# EAGLE library part SA818 (library ruark2)
NiceRF SA818 1W Embedded walkie talkie module
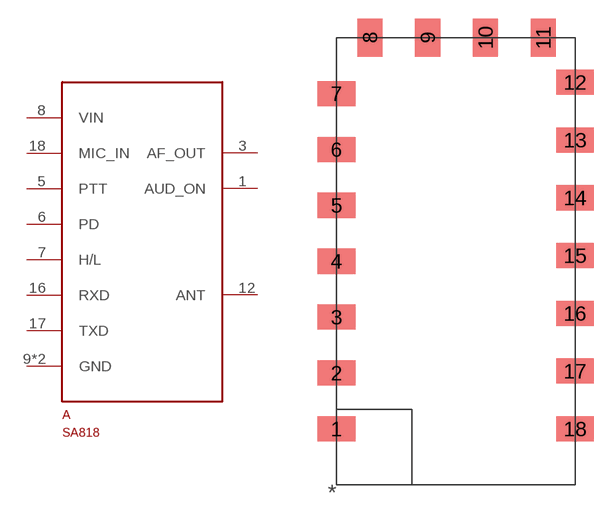
[diagram p36: symbol with the pads of SA818; footprint SA818]

Designator prefix A

## SA818  [SA818]
1  AUD_ON
3  AF_OUT
5  PTT
6  PD
7  H/L
8  VIN
9  GND
10  GND
12  ANT
16  RXD
17  TXD
18  MIC_IN

## Footprint SA818 (pad centres in mm)
smd 3 x 2: 1 0,4.45; 2 0,8.9; 3 0,13.35; 4 0,17.8; 5 0,22.25; 6 0,26.7; 7 0,31.15; 12 19,32.05; 13 19,27.45; 14 19,22.85; 15 19,18.25; 16 19,13.65; 17 19,9.05; 18 19,4.45
smd 2 x 3: 8 2.66,35.6; 9 7.26,35.6; 10 11.86,35.6; 11 16.46,35.6